# Altium footprint library DPAK_SMD.PcbLib: 27 footprints (part 2 of 2)
Each footprint in its own frame and in the unit in brackets; x right, y up, seen from the top. Pads: shape width x height; smd on the part's side, far side on the other; paste and mask are expansions set on the pad; w line width, h text height; cw(c..) or ccw(c..) is an arc to the next point about the centre after c.
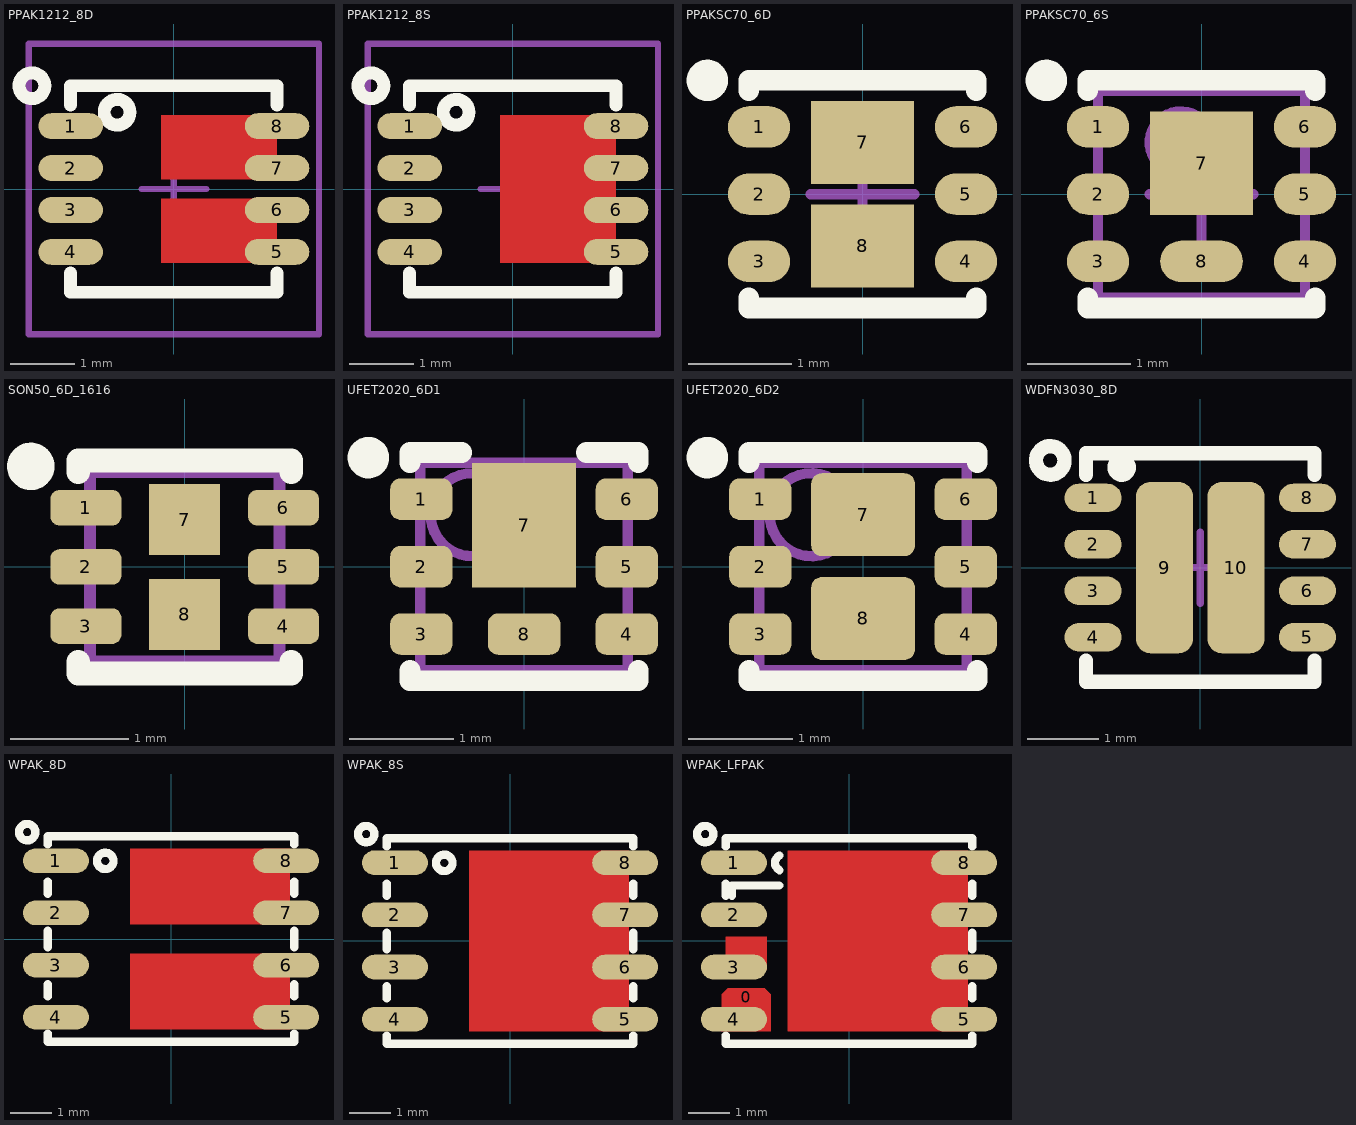
[diagram p1: the footprints below, top view; thin cyan lines are the x and y axes]

## PPAK1212_8D [mm] "PowerPAK 1212-8(vishay) pitch: 0.65mm 3.3x3.3x1.1mm"
height 1.1
pads (8):
  oval 1x0.4 smd mask+0.05: 1(-1.6,0.975) 2(-1.6,0.325) 3(-1.6,-0.325) 4(-1.6,-0.975) 5(1.6,-0.975) 6(1.6,-0.325) 7(1.6,0.325) 8(1.6,0.975)
Top Layer:
  rectangle: -0.2,-1.15 1.6,-0.15
  rectangle: -0.2,0.15 1.6,1.15
Top Overlay:
  circle w0.2: c-2.2,1.6 r0.2
  circle w0.2: c-0.88,1.19 r0.2
  lines w0.2: -1.6,-1.3 -1.6,-1.6 1.6,-1.6 1.6,-1.3 ; -1.6,1.3 -1.6,1.6 1.6,1.6 1.6,1.3
Top Paste:
  rectangle: -0.1,-1 0.9,-0.3
  rectangle: -0.1,0.3 0.9,1
Top Solder:
  rectangle: -0.25,-1.2 1.65,-0.1
  rectangle: -0.25,0.1 1.65,1.2
Mechanical 15:
  lines w0.1: -0.5,0 0.5,0 ; 0,-0.5 0,0.5 ; -2.25,-2.25 2.25,-2.25 2.25,2.25 -2.25,2.25 -2.25,-2.25
3D body "User Library-SI7913DN-T1-GE3.step": height 1.12, standoff 0, extent -1.655,-1.65 1.655,1.65

## PPAK1212_8S [mm] "PowerPAK 1212-8, pitch: 0.65mm 3.3x3.3x1.1mm, PowerDI3333-8"
height 1.1
pads (8):
  oval 1x0.4 smd: 1(-1.6,0.975) 2(-1.6,0.325) 3(-1.6,-0.325) 4(-1.6,-0.975) 5(1.6,-0.975) 6(1.6,-0.325) 7(1.6,0.325) 8(1.6,0.975)
Top Layer:
  rectangle: -0.2,-1.15 1.6,1.15
Top Overlay:
  circle w0.2: c-0.88,1.19 r0.2
  circle w0.2: c-2.2,1.6 r0.2
  lines w0.2: -1.6,-1.3 -1.6,-1.6 1.6,-1.6 1.6,-1.3 ; -1.6,1.3 -1.6,1.6 1.6,1.6 1.6,1.3
Top Paste:
  rectangle: -0.1,-1 0.9,-0.2
  rectangle: -0.1,0.2 0.9,1
Top Solder:
  rectangle: -0.25,-1.25 1.65,1.25
Mechanical 15:
  lines w0.1: -0.5,0 0.5,0 ; 0,-0.5 0,0.5 ; -2.25,-2.25 -2.25,2.25 2.25,2.25 2.25,-2.25 -2.25,-2.25
3D body "User Library-PowerPAK 1212-8-SiS892DN.step": height 1.04, standoff 0, extent -1.65,-1.65 1.65,1.65

## PPAKSC70_6D [mm] "PowerPAK SC-70-6, DFN2020D-6, DRV, PWSON, WDFN6 Pitch: 0.65mm 2x2x1.1mm with 2 Thermal pad"
height 1.1
pads (8):
  oval 0.6x0.4 smd paste-0.05 mask+0.075: 1(-1,0.65) 2(-1,0) 3(-1,-0.65) 4(1,-0.65) 5(1,0) 6(1,0.65)
  rect 1x0.8 smd paste-0.1 mask+0.075: 7(0,0.5) 8(0,-0.5)
Top Overlay:
  circle w0.2: c-1.5,1.1 r0.1
  lines w0.2: -1.1,-1 -1.1,-1.1 1.1,-1.1 1.1,-1 ; -1.1,1 -1.1,1.1 1.1,1.1 1.1,1
Mechanical 15:
  lines w0.1: -0.5,0 0.5,0 ; 0,-0.5 0,0.5
3D body "User Library-SOT1118 DFN2020-6.step": height 0.65, standoff 0, extent -1.04,-1.004 1.04,1.004

## PPAKSC70_6S [mm] "PowerPAK SC-70-6 SINGLE, MicroFET 2X2, DFN2020MD-6, SOT1220, Pitch: 0.65mm 2x2x1.1mm with 2 Thermal pad"
height 1.1
pads (8):
  oval 0.6x0.4 smd paste-0.05 mask+0.075: 1(-1,0.65) 2(-1,0) 3(-1,-0.65) 4(1,-0.65) 5(1,0) 6(1,0.65)
  rect 1x1 smd paste-0.1 mask+0.075: 7(0,0.3)
  oval 0.8x0.4 smd paste-0.05: 8(0,-0.65)
Top Overlay:
  circle w0.2: c-1.5,1.1 r0.1
  lines w0.2: -1.1,-1 -1.1,-1.1 1.1,-1.1 1.1,-1 ; -1.1,1 -1.1,1.1 1.1,1.1 1.1,1
Mechanical 13:
  circle w0.1: c-0.2,0.5 r0.3
  lines w0.1: -1,-1 -1,1 1,1 1,-1 -1,-1
Mechanical 15:
  lines w0.1: -0.5,0 0.5,0 ; 0,-0.5 0,0.5
3D body "User Library-SC70-6L.step": height 0.75, standoff -0.03, extent -1.025,-1.025 1.025,1.025

## SON50_6D_1616 [mm] "UDFN-6 1.6x1.6mm, 0.5mm pitch"
height 0.55
pads (8):
  rrect50% 0.6x0.3 smd paste-0.05 mask+0.05: 1(-0.835,0.5) 2(-0.835,0) 3(-0.835,-0.5) 4(0.835,-0.5) 5(0.835,0) 6(0.835,0.5)
  rect 0.6x0.6 smd paste-0.05 mask+0.075: 7(0,0.4) 8(0,-0.4)
Top Overlay:
  circle w0.2: c-1.3,0.85 r0.1
  lines w0.2: -0.9,-0.8 -0.9,-0.9 0.9,-0.9 0.9,-0.8 ; -0.9,0.8 -0.9,0.9 0.9,0.9 0.9,0.8
Mechanical 13:
  lines w0.1: -0.8,-0.8 -0.8,0.8 0.8,0.8 0.8,-0.8 -0.8,-0.8
3D body "User Library-MicroFET-6.STEP": height 0.55, standoff 0, extent -0.8,-0.8 0.8,0.8

## UFET2020_6D1 [mm] "MicroFET-6 2x2, 2x2mm, 0.65mm pitch, Dual thermal Pad"
height 0.8
pads (8):
  rrect50% 0.6x0.4 smd paste-0.05 mask+0.05: 1(-0.99,0.65) 2(-0.99,0) 3(-0.99,-0.65) 4(0.99,-0.65) 5(0.99,0) 6(0.99,0.65)
  rect 1x1.2 smd paste-0.1 mask+0.075: 7(0,0.4)
  rrect50% 0.7x0.4 smd paste-0.05 mask+0.05: 8(0,-0.65)
Top Overlay:
  circle w0.2: c-1.5,1.05 r0.1
  lines w0.2: -1.1,-1 -1.1,-1.1 1.1,-1.1 1.1,-1 ; -1.1,1 -1.1,1.1 -0.6,1.1 ; 0.6,1.1 1.1,1.1 1.1,1
Top Paste:
  rectangle: -0.4,-0.1 0.4,0.3
Mechanical 13:
  circle w0.1: c-0.5,0.5 r0.4
  lines w0.1: -1,-1 -1,1 1,1 1,-1 -1,-1
3D body "User Library-MicroFET-6(2_0).STEP": height 0.8, standoff 0, extent -1,-1 1,1

## UFET2020_6D2 [mm] "MicroFET-6 2x2, 2x2mm, 0.65mm pitch, Dual thermal Pad"
height 0.8
pads (8):
  rrect50% 0.6x0.4 smd paste-0.05 mask+0.05: 1(-0.99,0.65) 2(-0.99,0) 3(-0.99,-0.65) 4(0.99,-0.65) 5(0.99,0) 6(0.99,0.65)
  rrect25% 1x0.8 smd paste-0.1 mask+0.075: 7(0,0.5) 8(0,-0.5)
Top Overlay:
  circle w0.2: c-1.5,1.05 r0.1
  lines w0.2: -1.1,-1 -1.1,-1.1 1.1,-1.1 1.1,-1 ; -1.1,1 -1.1,1.1 1.1,1.1 1.1,1
Mechanical 13:
  circle w0.1: c-0.5,0.5 r0.4
  lines w0.1: -1,-1 1,-1 1,1 -1,1 -1,-1
3D body "User Library-MicroFET-6(2_0).STEP": height 0.8, standoff 0, extent -1,-1 1,1

## WDFN3030_8D [mm] "Power33, WDFN8 3x3, 0.65P 3.0x3.0x0.8mm"
height 0.8
pads (10):
  oval 0.8x0.4 smd paste-0.05 mask+0.05: 1(-1.5,0.975) 2(-1.5,0.325) 3(-1.5,-0.325) 4(-1.5,-0.975) 5(1.5,-0.975) 6(1.5,-0.325) 7(1.5,0.325) 8(1.5,0.975)
  rrect50% 0.8x2.4 smd paste-2 mask+0.05: 9(-0.5,0) 10(0.5,0)
Top Overlay:
  circle w0.2: c-2.1,1.5 r0.2
  circle w0.2: c-1.1,1.4 r0.1
  lines w0.2: -1.6,-1.3 -1.6,-1.6 1.6,-1.6 1.6,-1.3 ; -1.6,1.3 -1.6,1.6 1.6,1.6 1.6,1.3
Top Paste:
  region: 0.8,1 0.2,1 0.2,0.2 0.8,0.2
  region: 0.8,-0.2 0.2,-0.2 0.2,-1 0.8,-1
  rectangle: -0.8,-1 -0.2,-0.2
  rectangle: -0.8,0.2 -0.2,1
Mechanical 15:
  lines w0.1: -0.5,0 0.5,0 ; 0,-0.5 0,0.5
3D body "SON65P300X80_HS-9N.step": height 0.8, standoff 0, extent -1.501,-1.5 1.501,1.5

## WPAK_8D [mm] "WPAK, POWERPAK SO-8 1.27mm pitch Dual"
height 1.8
pads (8):
  oval 1.6x0.6 smd: 1(-2.8,1.905) 2(-2.8,0.635) 3(-2.8,-0.635) 4(-2.8,-1.905) 5(2.8,-1.905) 6(2.8,-0.635) 7(2.8,0.635) 8(2.8,1.905)
Top Layer:
  region: 2.9,-2.2 2.9,-0.35 -1,-0.35 -1,-2.2
  region: -1,2.2 -1,0.35 2.9,0.35 2.9,2.2
Top Overlay:
  circle w0.2: c-3.5,2.6 r0.2
  circle w0.2: c-1.6,1.9 r0.2
  lines w0.2: -3,-2.3 -3,-2.5 3,-2.5 3,-2.3 ; -3,-1.4 -3,-1.1 ; -3,-0.2 -3,0.2 ; -3,1.1 -3,1.4 ; -3,2.3 -3,2.5 3,2.5 3,2.3 ; 3,-1.4 3,-1.1 ; 3,-0.2 3,0.2 ; 3,1.1 3,1.4
Top Paste:
  rectangle: -0.8,-2 0.2,-0.5
  rectangle: 0.6,-2 1.6,-0.5
  rectangle: 0.6,0.5 1.6,2
  rectangle: -0.8,0.5 0.2,2
Top Solder:
  region: 2.9,-2.3 2.9,-0.25 -1.1,-0.25 -1.1,-2.3
  region: -1.1,2.3 -1.1,0.25 2.9,0.25 2.9,2.3
3D body "User Library-PowerPAK SO-8 (D).step": height 1.04, standoff 0, extent -3.075,-2.575 3.075,2.575

## WPAK_8S [mm] "WPAK, POWERPAK SO-8 1.27mm pitch Single"
height 1.8
pads (8):
  oval 1.6x0.6 smd: 1(-2.8,1.905) 2(-2.8,0.635) 3(-2.8,-0.635) 4(-2.8,-1.905) 5(2.8,-1.905) 6(2.8,-0.635) 7(2.8,0.635) 8(2.8,1.905)
Top Layer:
  region: -1,2.2 -1,-2.2 2.9,-2.2 2.9,2.2
Top Overlay:
  circle w0.2: c-3.5,2.6 r0.2
  circle w0.2: c-1.6,1.9 r0.2
  lines w0.2: -3,-2.3 -3,-2.5 3,-2.5 3,-2.3 ; -3,-1.4 -3,-1.1 ; -3,-0.2 -3,0.2 ; -3,1.1 -3,1.4 ; -3,2.3 -3,2.5 3,2.5 3,2.3 ; 3,-1.4 3,-1.1 ; 3,-0.2 3,0.2 ; 3,1.1 3,1.4
Top Paste:
  rectangle: -0.8,0.2 1.2,2
  rectangle: -0.8,-2 1.2,-0.2
Top Solder:
  region: -1.1,2.3 -1.1,-2.3 2.9,-2.3 2.9,2.3
3D body "User Library-PowerPAK SO-8 (S).step": height 1.04, standoff 0, extent -3.075,-2.575 3.075,2.575

## WPAK_LFPAK [mm] "WPAK+LFPAK"
height 1.8
pads (12):
  oval 1.2x0.5 on Top Solder: 0(-2.5,-1.375)
  oval 1.6x0.6 smd mask+0.075: 1(-2.8,1.905) 2(-2.8,0.635) 3(-2.8,-0.635) 4(-2.8,-1.905)
  oval 1.6x0.6 smd: 5(2.8,-1.905) 6(2.8,-0.635) 7(2.8,0.635) 8(2.8,1.905)
  oval 1.2x0.5 on Top Solder mask+0.1: ""(-2.5,-0.725) ""(-2.5,-0.075) ""(-2.5,0.575)
Top Layer:
  region: -1.5,2.2 -1.5,-2.2 2.9,-2.2 2.9,2.2
  region: -1.9,-2.2 -1.9,-1.3 -2.05,-1.15 -2.95,-1.15 -3.1,-1.3 -3.1,-2.2
  region: -2,-0.7 -2,0.1 -3,0.1 -3,-0.7
Top Overlay:
  circle w0.2: c-3.5,2.6 r0.2
  lines w0.2: -3,-2.3 -3,-2.5 3,-2.5 3,-2.3 ; -3,1.1 -3,1.4 ; -3,2.3 -3,2.5 3,2.5 3,2.3 ; -2.85,1.1 -2.85,1.35 -1.7,1.35 ; -1.689,1.721 cw(c-1.6,1.9) -1.689,2.079 ; 3,-1.4 3,-1.1 ; 3,-0.2 3,0.2 ; 3,1.1 3,1.4
Top Paste:
  rectangle: -1.3,-1.9 -0.3,-0.9
  rectangle: 0.1,-1.9 1.5,-0.9
  rectangle: -1.3,-0.5 -0.3,0.5
  rectangle: 0.1,-0.5 1.5,0.5
  rectangle: 0.1,0.9 1.5,1.9
  rectangle: -1.3,0.9 -0.3,1.9
Top Solder:
  region: -1.6,2.3 -1.6,-2.3 2.9,-2.3 2.9,2.3
3D body "User Library-PowerPAK SO-8 (S).step": height 1.04, standoff 0, extent -3.075,-2.575 3.075,2.575